# EAGLE library part ATSAMD20J- (library Hermes_lib)
Low-Power, 32-bit Cortex-M0+ MCUs with 12-bit ADC, 10-bit DAC, 256-Channel PTC, RTC, and SERCOM Datasheet <http://ww1.microchip.com/downloads/en/DeviceDoc/60001504B.pdf>
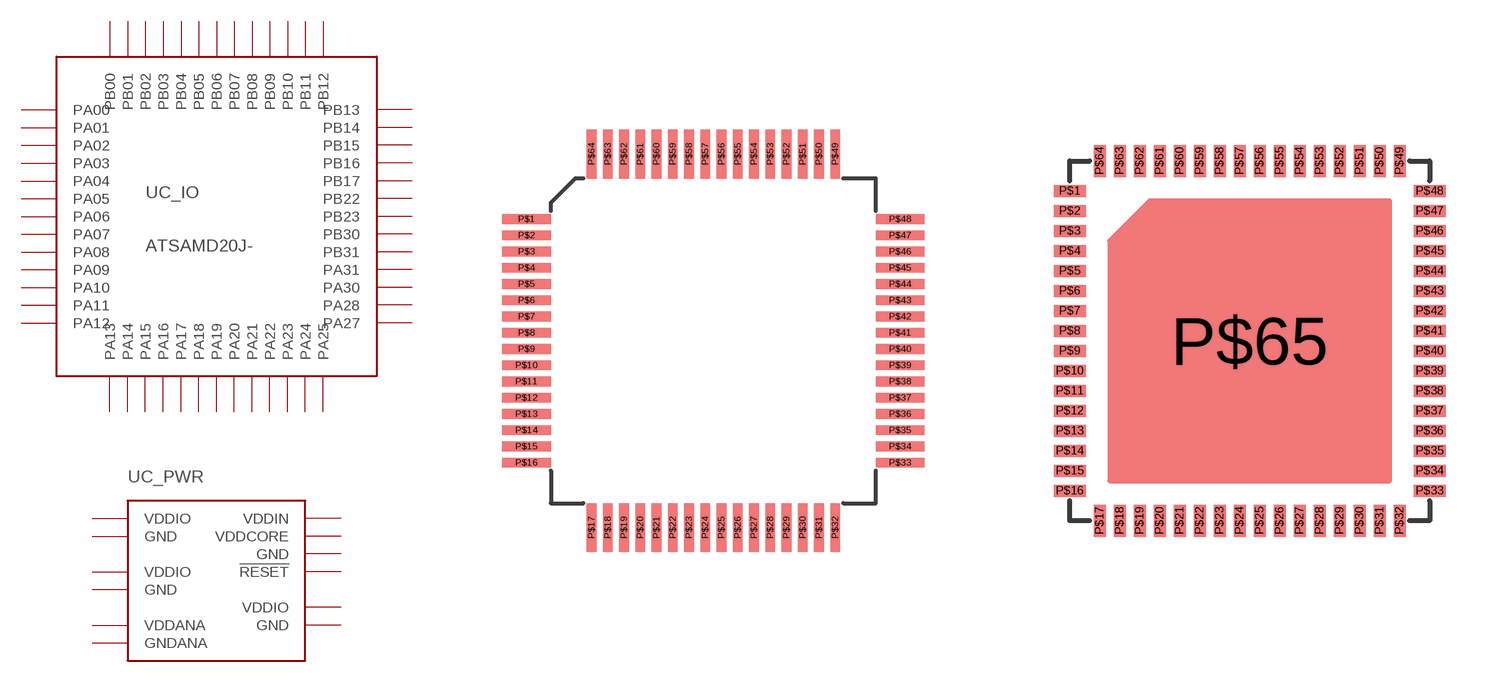
[diagram p1: symbol with the pads of TQFP-64; footprints TQFP-64, QFN-64]

Designator prefix UC; gates _IO=SAMD20J_IO _PWR=POWER64

## ATSAMD20J-TQFP64  [TQFP-64]
P$1  _IO:PA00
P$2  _IO:PA01
P$3  _IO:PA02
P$4  _IO:PA03
P$5  _IO:PB04
P$6  _IO:PB05
P$7  _PWR:GNDANA
P$8  _PWR:VDDANA
P$9  _IO:PB06
P$10  _IO:PB07
P$11  _IO:PB08
P$12  _IO:PB09
P$13  _IO:PA04
P$14  _IO:PA05
P$15  _IO:PA06
P$16  _IO:PA07
P$17  _IO:PA08
P$18  _IO:PA09
P$19  _IO:PA10
P$20  _IO:PA11
P$21  _PWR:VDDIO
P$22  _PWR:GND
P$23  _IO:PB10
P$24  _IO:PB11
P$25  _IO:PB12
P$26  _IO:PB13
P$27  _IO:PB14
P$28  _IO:PB15
P$29  _IO:PA12
P$30  _IO:PA13
P$31  _IO:PA14
P$32  _IO:PA15
P$33  _PWR:GND
P$34  _PWR:VDDIO
P$35  _IO:PA16
P$36  _IO:PA17
P$37  _IO:PA18
P$38  _IO:PA19
P$39  _IO:PB16
P$40  _IO:PB17
P$41  _IO:PA20
P$42  _IO:PA21
P$43  _IO:PA22
P$44  _IO:PA23
P$45  _IO:PA24
P$46  _IO:PA25
P$47  _PWR:GND
P$48  _PWR:VDDIO
P$49  _IO:PB22
P$50  _IO:PB23
P$51  _IO:PA27
P$52  _PWR:!RESET
P$53  _IO:PA28
P$54  _PWR:GND
P$55  _PWR:VDDCORE
P$56  _PWR:VDDIN
P$57  _IO:PA30
P$58  _IO:PA31
P$59  _IO:PB30
P$60  _IO:PB31
P$61  _IO:PB00
P$62  _IO:PB01
P$63  _IO:PB02
P$64  _IO:PB03

## ATSAMD20J-QFN64  [QFN-64]
P$1  _IO:PA00
P$2  _IO:PA01
P$3  _IO:PA02
P$4  _IO:PA03
P$5  _IO:PB04
P$6  _IO:PB05
P$7  _PWR:GNDANA
P$8  _PWR:VDDANA
P$9  _IO:PB06
P$10  _IO:PB07
P$11  _IO:PB08
P$12  _IO:PB09
P$13  _IO:PA04
P$14  _IO:PA05
P$15  _IO:PA06
P$16  _IO:PA07
P$17  _IO:PA08
P$18  _IO:PA09
P$19  _IO:PA10
P$20  _IO:PA11
P$21  _PWR:VDDIO
P$22  _PWR:GND
P$23  _IO:PB10
P$24  _IO:PB11
P$25  _IO:PB12
P$26  _IO:PB13
P$27  _IO:PB14
P$28  _IO:PB15
P$29  _IO:PA12
P$30  _IO:PA13
P$31  _IO:PA14
P$32  _IO:PA15
P$33  _PWR:GND
P$34  _PWR:VDDIO
P$35  _IO:PA16
P$36  _IO:PA17
P$37  _IO:PA18
P$38  _IO:PA19
P$39  _IO:PB16
P$40  _IO:PB17
P$41  _IO:PA20
P$42  _IO:PA21
P$43  _IO:PA22
P$44  _IO:PA23
P$45  _IO:PA24
P$46  _IO:PA25
P$47  _PWR:GND
P$48  _PWR:VDDIO
P$49  _IO:PB22
P$50  _IO:PB23
P$51  _IO:PA27
P$52  _PWR:!RESET
P$53  _IO:PA28
P$54  _PWR:GND
P$55  _PWR:VDDCORE
P$56  _PWR:VDDIN
P$57  _IO:PA30
P$58  _IO:PA31
P$59  _IO:PB30
P$60  _IO:PB31
P$61  _IO:PB00
P$62  _IO:PB01
P$63  _IO:PB02
P$64  _IO:PB03
P$65  _PWR:GND

## Footprint TQFP-64 (pad centres in mm)
smd 1.5 x 0.3: P$1 -6,4; P$2 -6,3.5; P$3 -6,3; P$4 -6,2.5; P$5 -6,2; P$6 -6,1.5; P$7 -6,1; P$8 -6,0.5; P$9 -6,0; P$10 -6,-0.5; P$11 -6,-1; P$12 -6,-1.5; P$13 -6,-2; P$14 -6,-2.5; P$15 -6,-3; P$16 -6,-3.5; P$33 5.5,-3.5; P$34 5.5,-3; P$35 5.5,-2.5; P$36 5.5,-2; P$37 5.5,-1.5; P$38 5.5,-1; P$39 5.5,-0.5; P$40 5.5,0; P$41 5.5,0.5; P$42 5.5,1; P$43 5.5,1.5; P$44 5.5,2; P$45 5.5,2.5; P$46 5.5,3; P$47 5.5,3.5; P$48 5.5,4
smd 0.3 x 1.5: P$17 -4,-5.5; P$18 -3.5,-5.5; P$19 -3,-5.5; P$20 -2.5,-5.5; P$21 -2,-5.5; P$22 -1.5,-5.5; P$23 -1,-5.5; P$24 -0.5,-5.5; P$25 0,-5.5; P$26 0.5,-5.5; P$27 1,-5.5; P$28 1.5,-5.5; P$29 2,-5.5; P$30 2.5,-5.5; P$31 3,-5.5; P$32 3.5,-5.5; P$49 3.5,6; P$50 3,6; P$51 2.5,6; P$52 2,6; P$53 1.5,6; P$54 1,6; P$55 0.5,6; P$56 0,6; P$57 -0.5,6; P$58 -1,6; P$59 -1.5,6; P$60 -2,6; P$61 -2.5,6; P$62 -3,6; P$63 -3.5,6; P$64 -4,6

## Footprint QFN-64 (pad centres in mm)
smd 0.8 x 0.3: P$1 -4.5,3.75; P$2 -4.5,3.25; P$3 -4.5,2.75; P$4 -4.5,2.25; P$5 -4.5,1.75; P$6 -4.5,1.25; P$7 -4.5,0.75; P$8 -4.5,0.25; P$9 -4.5,-0.25; P$10 -4.5,-0.75; P$11 -4.5,-1.25; P$12 -4.5,-1.75; P$13 -4.5,-2.25; P$14 -4.5,-2.75; P$15 -4.5,-3.25; P$16 -4.5,-3.75; P$33 4.5,-3.75; P$34 4.5,-3.25; P$35 4.5,-2.75; P$36 4.5,-2.25; P$37 4.5,-1.75; P$38 4.5,-1.25; P$39 4.5,-0.75; P$40 4.5,-0.25; P$41 4.5,0.25; P$42 4.5,0.75; P$43 4.5,1.25; P$44 4.5,1.75; P$45 4.5,2.25; P$46 4.5,2.75; P$47 4.5,3.25; P$48 4.5,3.75
smd 0.3 x 0.8: P$17 -3.75,-4.5; P$18 -3.25,-4.5; P$19 -2.75,-4.5; P$20 -2.25,-4.5; P$21 -1.75,-4.5; P$22 -1.25,-4.5; P$23 -0.75,-4.5; P$24 -0.25,-4.5; P$25 0.25,-4.5; P$26 0.75,-4.5; P$27 1.25,-4.5; P$28 1.75,-4.5; P$29 2.25,-4.5; P$30 2.75,-4.5; P$31 3.25,-4.5; P$32 3.75,-4.5; P$49 3.75,4.5; P$50 3.25,4.5; P$51 2.75,4.5; P$52 2.25,4.5; P$53 1.75,4.5; P$54 1.25,4.5; P$55 0.75,4.5; P$56 0.25,4.5; P$57 -0.25,4.5; P$58 -0.75,4.5; P$59 -1.25,4.5; P$60 -1.75,4.5; P$61 -2.25,4.5; P$62 -2.75,4.5; P$63 -3.25,4.5; P$64 -3.75,4.5
smd 6.452 x 3.251: P$65 0,0